# Altium schematic symbol library CI temporizadores y relojes.SchLib: 1 symbol
Pins are listed as number, name and electrical type; pins without a type are passive.

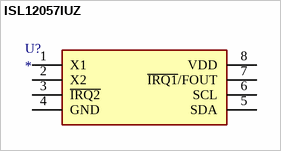
[diagram p0: symbol ISL12057IUZ]

## ISL12057IUZ
designator U?
datasheet: https://www.mouser.es/datasheet/2/698/REN_isl12057_DST_20081209-1998090.pdf; ComponentLink1Description: mouser; ComponentLink1URL: https://www.mouser.es/ProductDetail/Renesas-Intersil/ISL12057IUZ?qs=9fLuogzTs8L3x3vEn%2FhmKA%3D%3D
footprint SOP65P490X110-8N
pins: 1 X1, 2 X2, 3 ~{IRQ2}, 4 GND, 5 SDA, 6 SCL, 7 ~{IRQ1}/FOUT, 8 VDD